# Altium footprint library TESEOLIV3R.PcbLib: 1 footprints
Each footprint in its own frame and in the unit in brackets; x right, y up, seen from the top. Pads: shape width x height; smd on the part's side, far side on the other; paste and mask are expansions set on the pad; w line width, h text height; cw(c..) or ccw(c..) is an arc to the next point about the centre after c.
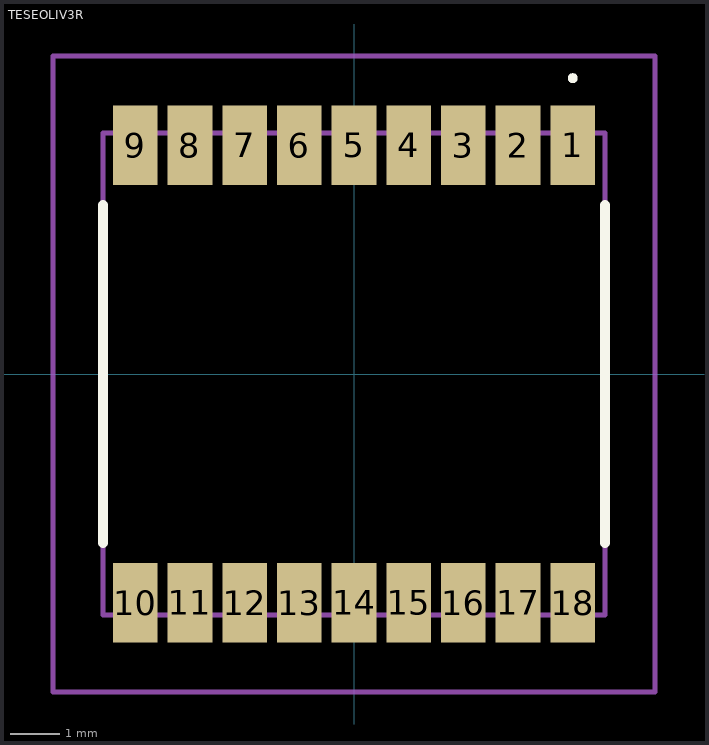
[diagram p0: the footprint, top view; thin cyan lines are the x and y axes]

## TESEOLIV3R [mm]
pads (18):
  rect 0.9x1.6 smd: 1(4.4,4.6) 2(3.3,4.6) 3(2.2,4.6) 4(1.1,4.6) 5(0,4.6) 6(-1.1,4.6) 7(-2.2,4.6) 8(-3.3,4.6) 9(-4.4,4.6) 10(-4.4,-4.6) 11(-3.3,-4.6) 12(-2.2,-4.6) 13(-1.1,-4.6) 14(0,-4.6) 15(1.1,-4.6) 16(2.2,-4.6) 17(3.3,-4.6) 18(4.4,-4.6)
Top Overlay:
  lines w0.1: 4.4,5.9 4.4,5.9 ; 4.4,5.9 ccw(c4.4,5.95) 4.4,6 ; 4.4,5.9 cw(c4.4,5.95) 4.4,6 ; 4.4,6 4.4,6
  lines w0.2: -5.05,-3.4 -5.05,3.4 ; 5.05,-3.4 5.05,3.4
Mechanical 15:
  lines w0.1: -5.05,-4.85 5.05,-4.85 5.05,4.85 -5.05,4.85 -5.05,-4.85
Mechanical 20:
  lines w0.1: -6.05,-6.4 6.05,-6.4 6.05,6.4 -6.05,6.4 -6.05,-6.4